# Altium integrated library TPS51206DSQR.IntLib: 1 symbol
Pins are listed as number, name and electrical type; pins without a type are passive.

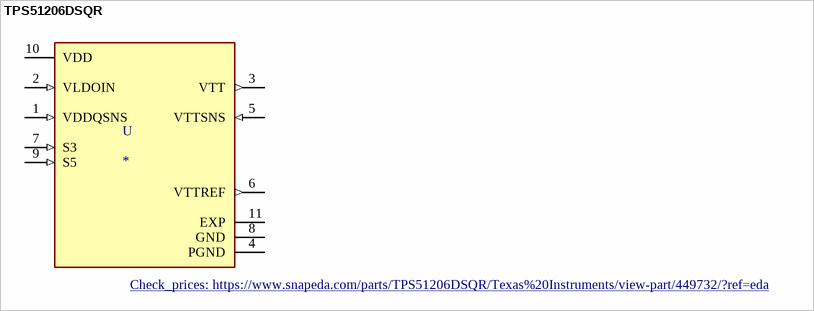
[diagram p0: symbol TPS51206DSQR]

## TPS51206DSQR
designator U
2A Peak Sink/Source DDR Termination Regulator with VTTREF Buffered Reference for DDR2/3/3L/4 10-WSON -40 to 105; MP: TPS51206DSQR; MF: Texas Instruments; Texas_Instruments-Purchase-URL: https://snapeda.com/shop?store=Texas+Instruments&id=449732; Value: *; Availability: Good; Price: None; DigiKey-Purchase-URL: https://snapeda.com/shop?store=DigiKey&id=449732; Package: WSON-10 Texas Instruments; SnapEDA_Link: https://www.snapeda.com/parts/TPS51206DSQR/Texas%20Instruments/view-part/449732/?ref=snap; Mouser-Purchase-URL: https://snapeda.com/shop?store=Mouser&id=449732; Check_prices: https://www.snapeda.com/parts/TPS51206DSQR/Texas%20Instruments/view-part/449732/?ref=eda
footprint SON40P200X200X80-11N
pins: 1 VDDQSNS (in), 2 VLDOIN (in), 3 VTT (out), 4 PGND (power), 5 VTTSNS (in), 6 VTTREF (out), 7 S3 (in), 8 GND (power), 9 S5 (in), 10 VDD (power), 11 EXP